# EAGLE library part SOLDER_PADS_9P (library stan)
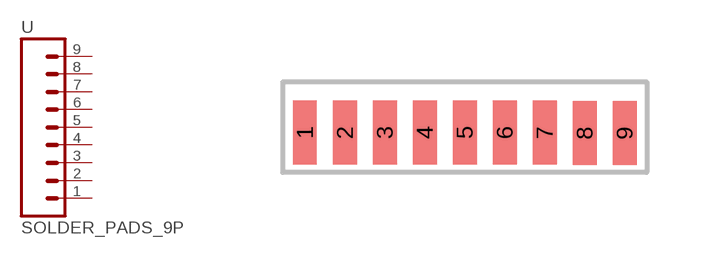
[diagram p12: symbol with the pads of SOLDER_PADS_9P; footprint SOLDER_PADS_9P]

Designator prefix -

## SOLDER_PADS_9P  [SOLDER_PADS_9P]
1  1  pas
2  2  pas
3  3  pas
4  4  pas
5  5  pas
6  6  pas
7  7  pas
8  8  pas
9  9  pas

## Footprint SOLDER_PADS_9P (pad centres in mm)
smd 0.6 x 1.6: 1 -2.5,0.365; 2 -1.5,0.365; 3 -0.5,0.365; 4 0.5,0.365; 5 1.5,0.365; 6 2.5,0.365; 7 3.5,0.365; 8 4.5,0.35; 9 5.5,0.35